# Altium footprint library PLD-22.PcbLib: 1 footprints
Each footprint in its own frame and in the unit in brackets; x right, y up, seen from the top. Pads: shape width x height; smd on the part's side, far side on the other; paste and mask are expansions set on the pad; w line width, h text height; cw(c..) or ccw(c..) is an arc to the next point about the centre after c.
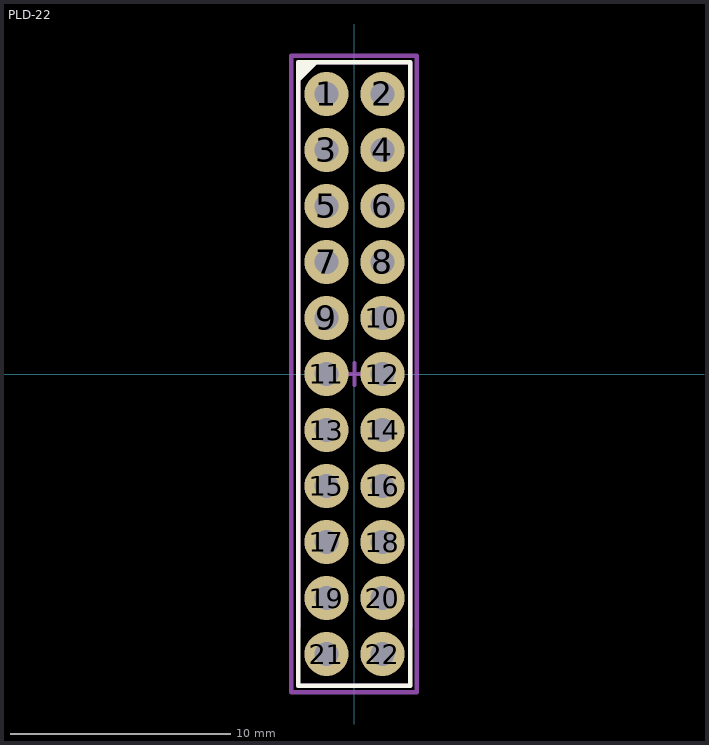
[diagram p0: the footprint, top view; thin cyan lines are the x and y axes]

## PLD-22 [mm] "2.54mm 2x11 pin male"
height 5
pads (22):
  round 2 hole 1.1: 1(-1.27,12.7) 2(1.27,12.7) 3(-1.27,10.16) 4(1.27,10.16) 5(-1.27,7.62) 6(1.27,7.62) 7(-1.27,5.08) 8(1.27,5.08) 9(-1.27,2.54) 10(1.27,2.54) 11(-1.27,0) 12(1.27,0) 13(-1.27,-2.54) 14(1.27,-2.54) 15(-1.27,-5.08) 16(1.27,-5.08) 17(-1.27,-7.62) 18(1.27,-7.62) 19(-1.27,-10.16) 20(1.27,-10.16) 21(-1.27,-12.7) 22(1.27,-12.7)
Top Overlay:
  region: -2.5,14.16 -2.5,13.26 -1.6,14.16
  lines w0.2: -2.54,-14.13 -2.54,14.13 2.53,14.13 2.53,-14.13 -2.54,-14.13
  text "." at -3.8,12.37 h5
Top Component Center:
  lines w0.2: -0.499,-0.001 0.501,-0.001 ; 0.001,-0.501 0.001,0.499
Top Assembly:
  lines w0.2: -2.54,-14.13 2.53,-14.13 ; -2.54,-11.5 -2.54,14.13 2.53,14.13 2.53,-11.5
Top Courtyard:
  lines w0.2: -2.87,-14.43 -2.87,14.43 2.83,14.43 2.83,-14.43 -2.87,-14.43
3D body "PLD-20.step": height 8.6, standoff -3, extent -2.54,-11.43 2.54,13.97
3D body "PLS-2.step": height 8.6, standoff -3, extent -2.54,-13.97 2.54,-11.43